# EAGLE library part CS8182YDFR8G (library ON_Semiconductor_By_element14_Batch_1)
Micropower 200 mA Low Dropout Tracking Regulator/Line Driver
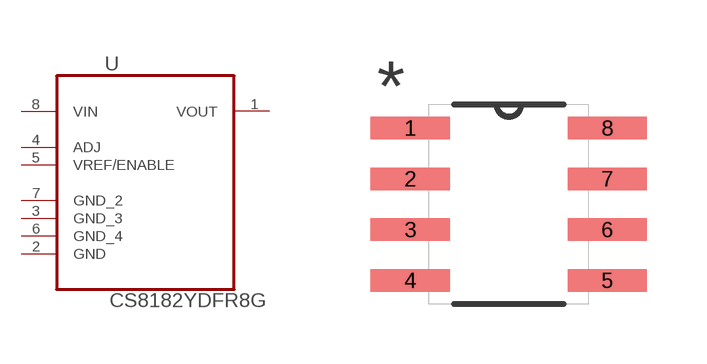
[diagram p21: symbol with the pads of SOIC127P600X175-8N; footprint SOIC127P600X175-8N]

Designator prefix U

## CS8182YDFR8G (MPN: CS8182YDFR8G; OC_FARNELL: 1155540; OC_NEWARK: 71J3571; PACKAGE: SOIC-8; SUPPLIER: ON Semiconductor)  [SOIC127P600X175-8N]
1  VOUT  out
2  GND  pas
3  GND_3  pas
4  ADJ  in
5  VREF/ENABLE  in
6  GND_4  pas
7  GND_2  pas
8  VIN  pwr

## Footprint SOIC127P600X175-8N (pad centres in mm)
smd 1.981 x 0.559: 1 -2.464,1.905; 2 -2.464,0.635; 3 -2.464,-0.635; 4 -2.464,-1.905; 5 2.464,-1.905; 6 2.464,-0.635; 7 2.464,0.635; 8 2.464,1.905